# EAGLE library part DMC2400UV (library transistor-fet)
DUAL N/P CHANNEL FET
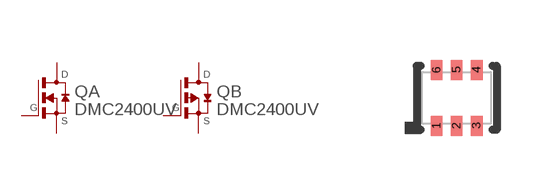
[diagram p21: symbol with the pads of SOT563; footprint SOT563]

Designator prefix Q; gates A=EMOS-ND B=EMOS-PD

## DMC2400UV  [SOT563]
1  A:S  pas
2  A:G  pas
3  B:D  pas
4  B:S  pas
5  B:G  pas
6  A:D  pas

## Footprint SOT563 (pad centres in mm)
SOT-563 DRL (R-PDSO-N6)
smd 0.3 x 0.5: 1 -0.5,-0.7; 2 0,-0.7; 3 0.5,-0.7; 4 0.5,0.7; 5 0,0.7; 6 -0.5,0.7